# EAGLE library part UC3906 (library woj)
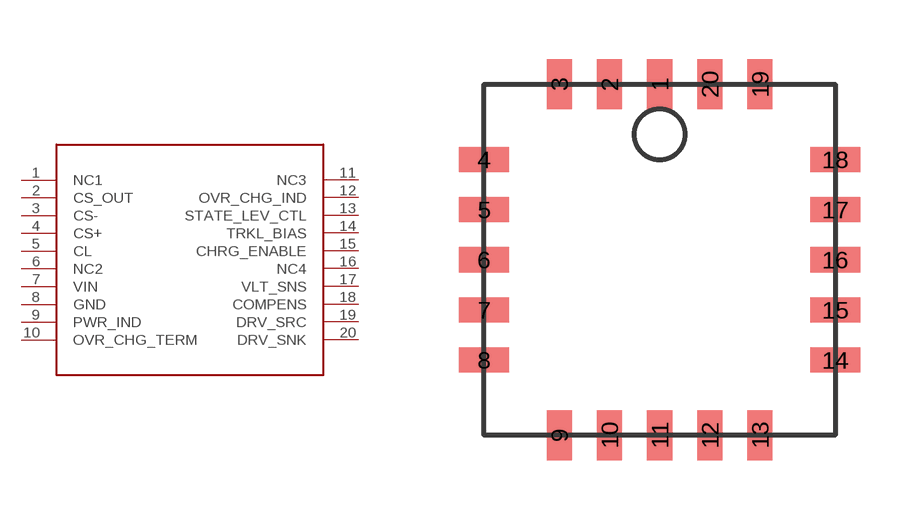
[diagram p0: symbol with the pads of UC3906; footprint UC3906]

Designator prefix -

## UC3906  [UC3906]
1  NC1
2  CS_OUT
3  CS-
4  CS+
5  CL
6  NC2
7  VIN
8  GND
9  PWR_IND
10  OVR_CHG_TERM
11  NC3
12  OVR_CHG_IND
13  STATE_LEV_CTL
14  TRKL_BIAS
15  CHRG_ENABLE
16  NC4
17  VLT_SNS
18  COMPENS
19  DRV_SRC
20  DRV_SNK

## Footprint UC3906 (pad centres in mm)
smd 0.635 x 1.27: 1 0,4.445; 2 -1.27,4.445; 3 -2.54,4.445; 9 -2.54,-4.445; 10 -1.27,-4.445; 11 0,-4.445; 12 1.27,-4.445; 13 2.54,-4.445; 19 2.54,4.445; 20 1.27,4.445
smd 1.27 x 0.635: 4 -4.445,2.54; 5 -4.445,1.27; 6 -4.445,0; 7 -4.445,-1.27; 8 -4.445,-2.54; 14 4.445,-2.54; 15 4.445,-1.27; 16 4.445,0; 17 4.445,1.27; 18 4.445,2.54